# EAGLE library part ESP8266-AI-THINKER (library PonLib)
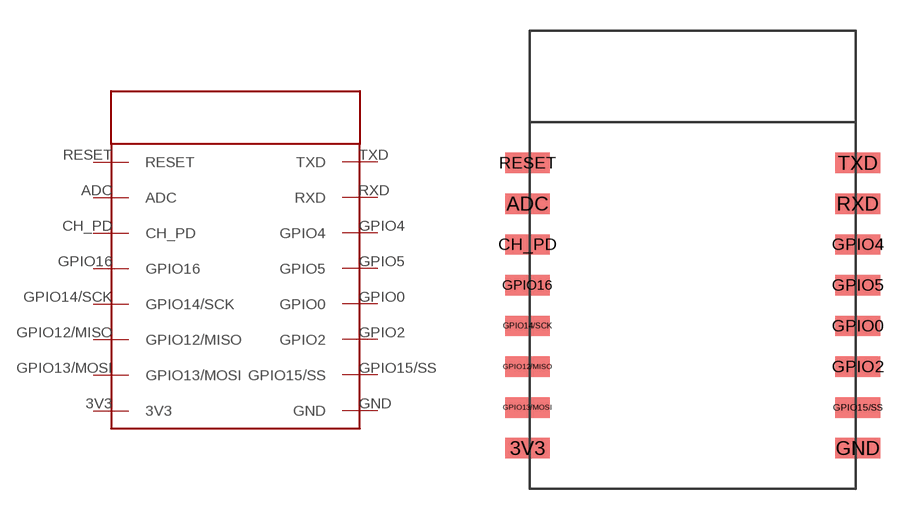
[diagram p33: symbol with the pads of ESP8266-AI-THINKER; footprint ESP8266-AI-THINKER]

Designator prefix -

## ESP8266-AI-THINKER  [ESP8266-AI-THINKER]
3V3  3V3
ADC  ADC
CH_PD  CH_PD
GND  GND
GPIO0  GPIO0
GPIO2  GPIO2
GPIO4  GPIO4
GPIO5  GPIO5
GPIO12/MISO  GPIO12/MISO
GPIO13/MOSI  GPIO13/MOSI
GPIO14/SCK  GPIO14/SCK
GPIO15/SS  GPIO15/SS
GPIO16  GPIO16
RESET  RESET
RXD  RXD
TXD  TXD

## Footprint ESP8266-AI-THINKER (pad centres in mm)
smd 2.2 x 1: 3V3 -8.1,1.5; ADC -8.1,13.5; CH_PD -8.1,11.5; GND 8.1,1.5; GPIO0 8.1,7.5; GPIO2 8.1,5.5; GPIO4 8.1,11.5; GPIO5 8.1,9.5; GPIO12/MISO -8.1,5.5; GPIO13/MOSI -8.1,3.5; GPIO14/SCK -8.1,7.5; GPIO15/SS 8.1,3.5; GPIO16 -8.1,9.5; RESET -8.1,15.5; RXD 8.1,13.5; TXD 8.1,15.5